# Altium footprint library 1x8 Header.PcbLib: 1 footprints
Each footprint in its own frame and in the unit in brackets; x right, y up, seen from the top. Pads: shape width x height; smd on the part's side, far side on the other; paste and mask are expansions set on the pad; w line width, h text height; cw(c..) or ccw(c..) is an arc to the next point about the centre after c.
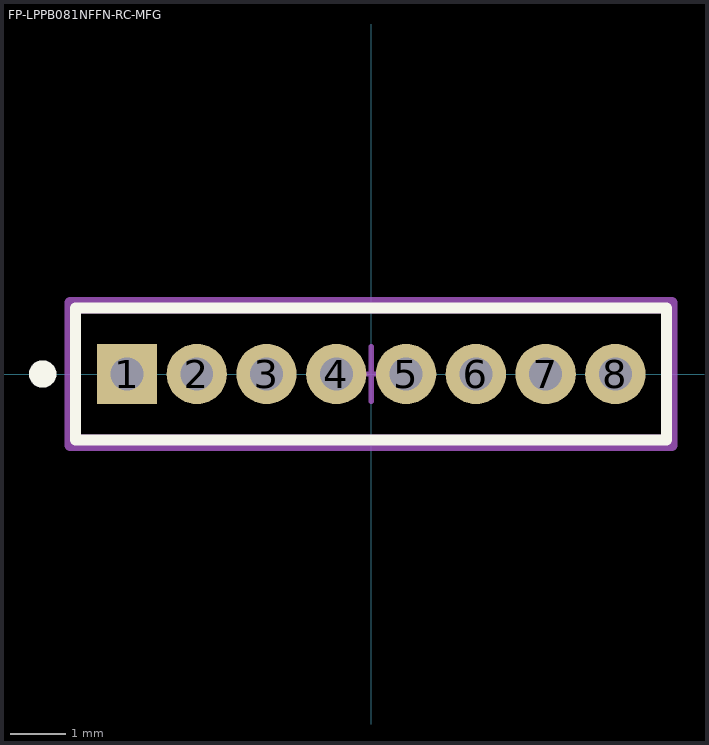
[diagram p0: the footprint, top view; thin cyan lines are the x and y axes]

## FP-LPPB081NFFN-RC-MFG [mm]
pads (8):
  rect 1.1x1.1 hole 0.6 paste-2539.97 mask+0: 1(-4.445,0)
  round 1.1 hole 0.6 paste-2539.97 mask+0: 2(-3.175,0) 3(-1.905,0) 4(-0.635,0) 5(0.635,0) 6(1.905,0) 7(3.175,0) 8(4.445,0)
Top Overlay:
  circle w0.25: c-5.98,0 r0.125
  lines w0.2: -5.38,-1.2 -5.38,1.2 5.38,1.2 5.38,-1.2 -5.38,-1.2
Top Assembly:
  lines w0.2: -5.48,-1.3 -5.48,1.3 5.48,1.3 5.48,-1.3 -5.48,-1.3
  text ".Designator" at 0,0.189 h1
Top 3D Body:
  lines w0.2: -5.38,-1.2 -5.38,1.2 5.38,1.2 5.38,-1.2 -5.38,-1.2
Top Courtyard:
  lines w0.2: -5.48,-1.3 -5.48,1.3 5.48,1.3 5.48,-1.3 -5.48,-1.3
Top Component Center:
  lines w0.1: -0.5,0 0.5,0 ; 0,-0.5 0,0.5
3D body "Conn_Sullins_Connector_Solutions_LPPB081NFFN-RC_eec.STEP": height 0.25, standoff 0, extent -5.48,-1.3 5.48,1.3